# Altium footprint library lagd_pcb.PcbLib: 42 footprints (part 2 of 3)
Each footprint in its own frame and in the unit in brackets; x right, y up, seen from the top. Pads: shape width x height; smd on the part's side, far side on the other; paste and mask are expansions set on the pad; w line width, h text height; cw(c..) or ccw(c..) is an arc to the next point about the centre after c.
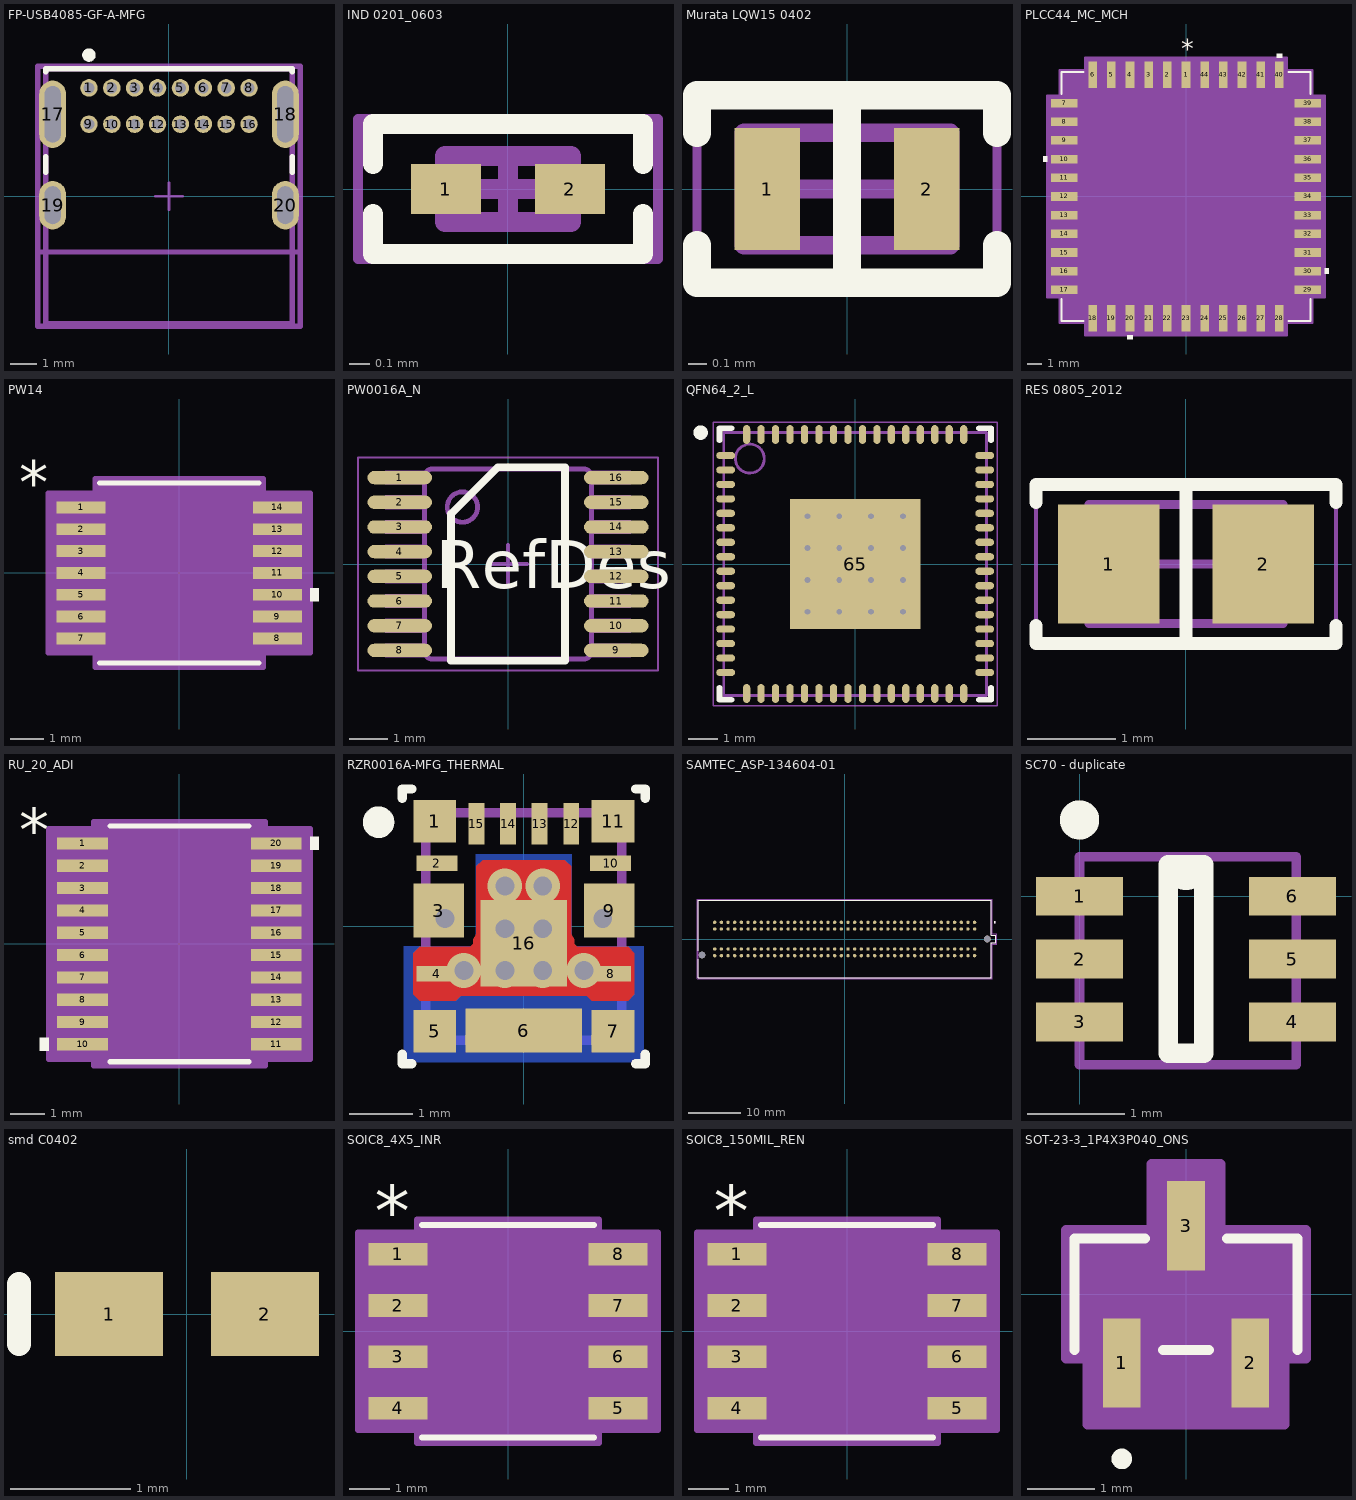
[diagram p1: the footprints below, top view; thin cyan lines are the x and y axes]

## FP-USB4085-GF-A-MFG [mm]
pads (20):
  round 0.65 hole 0.4 paste-2539.97 mask+0: 1(-2.975,4.025) 2(-2.125,4.025) 3(-1.275,4.025) 4(-0.425,4.025) 5(0.425,4.025) 6(1.275,4.025) 7(2.125,4.025) 8(2.975,4.025) 9(-2.975,2.675) 10(-2.125,2.675) 11(-1.275,2.675) 12(-0.425,2.675) 13(0.425,2.675) 14(1.275,2.675) 15(2.125,2.675) 16(2.975,2.675)
  rrect100% 1x2.5 hole 2.1 slot 0.6 at 0 deg paste-2539.97 mask+0: 17(-4.325,3.045) 18(4.325,3.045)
  rrect100% 1x1.8 hole 1.4 slot 0.6 at 0 deg paste-2539.97 mask+0: 19(-4.325,-0.335) 20(4.325,-0.335)
Top Overlay:
  circle w0.25: c-2.975,5.245 r0.125
  lines w0.2: -4.575,0.89 -4.575,1.47 ; -4.575,4.62 -4.575,4.735 4.575,4.735 4.575,4.62 ; 4.575,0.89 4.575,1.47
Top Assembly:
  lines w0.2: -4.875,-4.835 4.875,-4.835 4.875,4.835 -4.875,4.835 -4.875,-4.835
  text ".Designator" at 0,0.188 h1
Top 3D Body:
  lines w0.2: -4.875,-2.075 4.875,-2.075 ; -4.575,-4.735 4.575,-4.735 4.575,4.735 -4.575,4.735 -4.575,-4.735
Top Courtyard:
  lines w0.2: -4.875,-4.835 4.875,-4.835 4.875,4.835 -4.875,4.835 -4.875,-4.835
Top Component Center:
  lines w0.1: -0.5,0 0.5,0 ; 0,-0.5 0,0.5
3D body "Conn_GCT_USB4085-GF-A_eec.STEP": height 0.25, standoff 0, extent -4.875,-4.835 4.875,4.835

## IND 0201_0603 [mm] "Inductor, 2-Leads, Body 0.60x0.30mm, IPC Medium Density"
height 0.33
pads (2):
  rect 0.35x0.25 smd: 1(-0.31,0) 2(0.31,0)
Top Overlay:
  lines w0.1: -0.675,-0.125 -0.675,-0.325 0.675,-0.325 0.675,-0.125 ; -0.675,0.125 -0.675,0.325 0.675,0.325 0.675,0.125
Top 3D Body:
  lines w0.1: -0.315,-0.165 0.315,-0.165 0.315,0.165 -0.315,0.165 -0.315,-0.165
Top Courtyard:
  lines w0.05: -0.75,-0.35 0.75,-0.35 0.75,0.35 -0.75,0.35 -0.75,-0.35
  lines w0.1: -0.165,0 0.165,0 ; 0,-0.165 0,0.165
3D body "INDUC 0201.step": height 0.3, standoff 0, extent -0.3,-0.15 0.3,0.15

## Murata LQW15 0402 [mm] "Chip Inductor, 2-Leads, Body 1.00x0.50mm, IPC High Density"
height 0.6
pads (2):
  rect 0.35x0.65 smd: 1(-0.425,0) 2(0.425,0)
Top Overlay:
  lines w0.15: -0.8,-0.3 -0.8,-0.5 0.8,-0.5 0.8,-0.3 ; -0.8,0.3 -0.8,0.5 0.8,0.5 0.8,0.3 ; 0,-0.5 0,0.5
Top 3D Body:
  lines w0.1: -0.55,-0.3 -0.55,0.3 0.55,0.3 0.55,-0.3 -0.55,-0.3
Top Courtyard:
  lines w0.05: -0.8,-0.5 -0.8,0.5 0.8,0.5 0.8,-0.5 -0.8,-0.5
  lines w0.1: -0.3,0 0.3,0 ; 0,-0.3 0,0.3
3D body "IND-WireWound.STEP": height 0.5, standoff 0, extent -0.5,-0.276 0.5,0.277
3D body "IND-WireWound_TOP.STEP": height 0.51, standoff 0.26, extent -0.5,-0.287 0.5,0.287

## PLCC44_MC_MCH [mil]
pads (44):
  rect 23x71 smd paste+0 mask+0: 1(0,326) 2(-50,326) 3(-100,326) 4(-150,326) 5(-200,326) 6(-250,326) 18(-250,-326) 19(-200,-326) 20(-150,-326) 21(-100,-326) 22(-50,-326) 23(0,-326) 24(50,-326) 25(100,-326) 26(150,-326) 27(200,-326) 28(250,-326) 40(250,326) 41(200,326) 42(150,326) 43(100,326) 44(50,326)
  rect 71x23 smd paste+0 mask+0: 7(-326,250) 8(-326,200) 9(-326,150) 10(-326,100) 11(-326,50) 12(-326,0) 13(-326,-50) 14(-326,-100) 15(-326,-150) 16(-326,-200) 17(-326,-250) 29(326,-250) 30(326,-200) 31(326,-150) 32(326,-100) 33(326,-50) 34(326,0) 35(326,50) 36(326,100) 37(326,150) 38(326,200) 39(326,250)
Top Overlay:
  region: 257.5,371.5 242.5,371.5 242.5,381.5 257.5,381.5
  region: 371.5,-192.5 381.5,-192.5 381.5,-207.5 371.5,-207.5
  region: -142.5,-371.5 -157.5,-371.5 -157.5,-381.5 -142.5,-381.5
  region: -371.5,107.5 -381.5,107.5 -381.5,92.5 -371.5,92.5
  lines w6: -333,-274.6 -333,-333 -274.6,-333 ; -333,274.6 -333,333 -274.6,333 ; 274.6,-333 333,-333 333,-274.6 ; 274.6,333 333,333 333,274.6
  text "*" at -12.5,371.5 h50
Top 3D Body:
  drawing of 181 lines, arcs and shapes, not listed
  text "*" at -12.5,260.5 h50
Top Courtyard:
  region: -270,-338 -338,-338 -338,-270 -371.5,-270 -371.5,270 -338,270 -338,338 -270,338 -270,371.5 270,371.5 270,338 338,338 338,270 371.5,270 371.5,-270 338,-270 338,-338 270,-338 270,-371.5 -270,-371.5
  lines w6: -371.5,-270 -371.5,270 -338,270 -338,338 -270,338 -270,371.5 270,371.5 270,338 338,338 338,270 371.5,270 371.5,-270 338,-270 338,-338 270,-338 270,-371.5 -270,-371.5 -270,-338 -338,-338 -338,-270 -371.5,-270
3D body "PLCC44_MC_MCH.step": height 180.12, standoff 0.12, extent -347.52,-347.52 347.52,347.52

## PW14 [mil]
pads (14):
  rect 57.56x13.97 smd paste+0 mask+0: 1(-115,76.77) 2(-115,51.18) 3(-115,25.59) 4(-115,0) 5(-115,-25.59) 6(-115,-51.18) 7(-115,-76.77) 8(115,-76.77) 9(115,-51.18) 10(115,-25.59) 11(115,0) 12(115,25.59) 13(115,51.18) 14(115,76.77)
Top Overlay:
  region: 153.78,-18.09 163.78,-18.09 163.78,-33.09 153.78,-33.09
  lines w6: -93.5,-105.5 93.5,-105.5 ; -93.5,105.5 93.5,105.5
  text "*" at -187.72,81.46 h50
  text ".Designator" at -137.5,-25 h50
Top 3D Body:
  lines w1: -12,100.5 ccw(c0,100.5) 12,100.5 ; -130,-82.77 -88.5,-82.77 -88.5,-70.77 -130,-70.77 -130,-82.77 ; -130,-57.18 -88.5,-57.18 -88.5,-45.18 -130,-45.18 -130,-57.18 ; -130,-31.59 -88.5,-31.59 -88.5,-19.59 -130,-19.59 -130,-31.59 ; -130,-6 -88.5,-6 -88.5,6 -130,6 -130,-6 ; -130,19.59 -88.5,19.59 -88.5,31.59 -130,31.59 -130,19.59 ; -130,45.18 -88.5,45.18 -88.5,57.18 -130,57.18 -130,45.18 ; -130,70.77 -88.5,70.77 -88.5,82.77 -130,82.77 -130,70.77 ; -88.5,-100.5 -88.5,100.5 88.5,100.5 88.5,-100.5 -88.5,-100.5 ; 88.5,-82.77 130,-82.77 130,-70.77 88.5,-70.77 88.5,-82.77 ; 88.5,-57.18 130,-57.18 130,-45.18 88.5,-45.18 88.5,-57.18 ; 88.5,-31.59 130,-31.59 130,-19.59 88.5,-19.59 88.5,-31.59 ; 88.5,-6 130,-6 130,6 88.5,6 88.5,-6 ; 88.5,19.59 130,19.59 130,31.59 88.5,31.59 88.5,19.59 ; 88.5,45.18 130,45.18 130,57.18 88.5,57.18 88.5,45.18 ; 88.5,70.77 130,70.77 130,82.77 88.5,82.77 88.5,70.77
  text ".Designator" at -137.5,-25 h50
  text "*" at -86,47.5 h50
Top Courtyard:
  region: -98.5,-93.76 -153.78,-93.76 -153.78,93.76 -98.5,93.76 -98.5,110.5 98.5,110.5 98.5,93.76 153.78,93.76 153.78,-93.76 98.5,-93.76 98.5,-110.5 -98.5,-110.5
  lines w6: -153.78,-93.76 -98.5,-93.76 -98.5,-110.5 98.5,-110.5 98.5,-93.76 153.78,-93.76 153.78,93.76 98.5,93.76 98.5,110.5 -98.5,110.5 -98.5,93.76 -153.78,93.76 -153.78,-93.76
3D body "PW14.step": height 47.09, standoff 0, extent -130,-100.51 130,100.51

## PW0016A_N [mm]
pads (16):
  oval 1.7x0.35 smd paste-0.102 mask+0.051: 1(-2.85,2.275) 2(-2.85,1.625) 3(-2.85,0.975) 4(-2.85,0.325) 5(-2.85,-0.325) 6(-2.85,-0.975) 7(-2.85,-1.625) 8(-2.85,-2.275) 9(2.85,-2.275) 10(2.85,-1.625) 11(2.85,-0.975) 12(2.85,-0.325) 13(2.85,0.325) 14(2.85,0.975) 15(2.85,1.625) 16(2.85,2.275)
Top Overlay:
  lines w0.2: -1.5,-2.55 1.5,-2.55 1.5,2.55 -0.275,2.55 -1.5,1.325 -1.5,-2.55
  text "RefDes" at -1.905,-0.635 h1.27
Top 3D Body:
  drawing of 202 lines, arcs and shapes, not listed
Top Courtyard:
  lines w0.05: -3.95,-2.8 -3.95,2.8 3.95,2.8 3.95,-2.8 -3.95,-2.8
  lines w0.1: -0.5,0 0.5,0 ; 0,-0.5 0,0.5

## QFN64_2_L [mm] "QFN, 64-Leads, Body 9x9mm, Pitch 0.5mm, Thermal Pad 4.5x4.5mm, IPC High Density"
height 1
pads (65):
  oval 0.65x0.25 smd: 1(-4.475,3.75) 2(-4.475,3.25) 3(-4.475,2.75) 4(-4.475,2.25) 5(-4.475,1.75) 6(-4.475,1.25) 7(-4.475,0.75) 8(-4.475,0.25) 9(-4.475,-0.25) 10(-4.475,-0.75) 11(-4.475,-1.25) 12(-4.475,-1.75) 13(-4.475,-2.25) 14(-4.475,-2.75) 15(-4.475,-3.25) 16(-4.475,-3.75) 33(4.475,-3.75) 34(4.475,-3.25) 35(4.475,-2.75) 36(4.475,-2.25) 37(4.475,-1.75) 38(4.475,-1.25) 39(4.475,-0.75) 40(4.475,-0.25) 41(4.475,0.25) 42(4.475,0.75) 43(4.475,1.25) 44(4.475,1.75) 45(4.475,2.25) 46(4.475,2.75) 47(4.475,3.25) 48(4.475,3.75)
  oval 0.25x0.65 smd: 17(-3.75,-4.475) 18(-3.25,-4.475) 19(-2.75,-4.475) 20(-2.25,-4.475) 21(-1.75,-4.475) 22(-1.25,-4.475) 23(-0.75,-4.475) 24(-0.25,-4.475) 25(0.25,-4.475) 26(0.75,-4.475) 27(1.25,-4.475) 28(1.75,-4.475) 29(2.25,-4.475) 30(2.75,-4.475) 31(3.25,-4.475) 32(3.75,-4.475) 49(3.75,4.475) 50(3.25,4.475) 51(2.75,4.475) 52(2.25,4.475) 53(1.75,4.475) 54(1.25,4.475) 55(0.75,4.475) 56(0.25,4.475) 57(-0.25,4.475) 58(-0.75,4.475) 59(-1.25,4.475) 60(-1.75,4.475) 61(-2.25,4.475) 62(-2.75,4.475) 63(-3.25,4.475) 64(-3.75,4.475)
  rect 4.5x4.5 smd: 65(0,0)
via -1.65,-1.65 diameter 0.55 hole 0.2
via -1.65,0.55 diameter 0.55 hole 0.2
via -1.65,-0.55 diameter 0.55 hole 0.2
via -1.65,1.65 diameter 0.55 hole 0.2
via -0.55,-1.65 diameter 0.55 hole 0.2
via 0.55,-1.65 diameter 0.55 hole 0.2
via 1.65,-0.55 diameter 0.55 hole 0.2
via 0.55,-0.55 diameter 0.55 hole 0.2
via -0.55,0.55 diameter 0.55 hole 0.2
via -0.55,-0.55 diameter 0.55 hole 0.2
via 1.65,0.55 diameter 0.55 hole 0.2
via 0.55,0.55 diameter 0.55 hole 0.2
via 1.65,-1.65 diameter 0.55 hole 0.2
via 0.55,1.65 diameter 0.55 hole 0.2
via 1.65,1.65 diameter 0.55 hole 0.2
via -0.55,1.65 diameter 0.55 hole 0.2
Top Overlay:
  circle w0.25: c-5.34,4.54 r0.125
  lines w0.2: -4.69,-4.275 -4.69,-4.69 -4.275,-4.69 ; -4.69,4.275 -4.69,4.69 -4.275,4.69 ; 4.275,-4.69 4.69,-4.69 4.69,-4.275 ; 4.275,4.69 4.69,4.69 4.69,4.275
Top 3D Body:
  circle w0.1: c-3.64,3.64 r0.5
  lines w0.1: -4.54,-4.54 -4.54,4.54 4.54,4.54 4.54,-4.54 -4.54,-4.54
Top Courtyard:
  lines w0.05: -4.9,-4.9 -4.9,4.9 4.9,4.9 4.9,-4.9 -4.9,-4.9
  lines w0.1: -0.5,0 0.5,0 ; 0,-0.5 0,0.5
3D body: height 1, standoff 0, extent -4.54,-4.54 4.54,4.54

## RES 0805_2012 [mm] "Chip Resistor, 2-Leads, Body 2.00x1.25mm, IPC Medium Density"
height 0.7
pads (2):
  rect 1.15x1.35 smd: 1(-0.875,0) 2(0.875,0)
Top Overlay:
  lines w0.15: -1.7,-0.7 -1.7,-0.9 1.7,-0.9 1.7,-0.7 ; -1.7,0.7 -1.7,0.9 1.7,0.9 1.7,0.7 ; 0,-0.9 0,0.9
Top 3D Body:
  lines w0.1: -1.1,-0.675 -1.1,0.675 1.1,0.675 1.1,-0.675 -1.1,-0.675
Top Courtyard:
  lines w0.05: -1.7,-0.95 -1.7,0.95 1.7,0.95 1.7,-0.95 -1.7,-0.95
  lines w0.1: -0.5,0 0.5,0 ; 0,-0.5 0,0.5
3D body "0805 resistor.STEP": height 0.6, standoff 0, extent -1,-0.625 1,0.625

## RU_20_ADI [mil]
pads (20):
  rect 58x14 smd paste+0 mask+0: 1(-111,115.16) 2(-111,89.57) 3(-111,63.98) 4(-111,38.39) 5(-111,12.8) 6(-111,-12.8) 7(-111,-38.39) 8(-111,-63.98) 9(-111,-89.57) 10(-111,-115.16) 11(111,-115.16) 12(111,-89.57) 13(111,-63.98) 14(111,-38.39) 15(111,-12.8) 16(111,12.8) 17(111,38.39) 18(111,63.98) 19(111,89.57) 20(111,115.16)
Top Overlay:
  region: -150,-107.66 -160,-107.66 -160,-122.66 -150,-122.66
  region: 150,122.66 160,122.66 160,107.66 150,107.66
  lines w6: -79.42,-135 79.42,-135 ; -79.42,135 79.42,135
  text "*" at -183.83,105.31 h50
  text ".Designator" at -137.5,-25 h50
Top 3D Body:
  lines w1: -12,130 ccw(c0,130) 12,130 ; -126,-121.16 -126,-109.16 -88.5,-109.16 -88.5,-121.16 -126,-121.16 ; -126,-95.57 -126,-83.57 -88.5,-83.57 -88.5,-95.57 -126,-95.57 ; -126,-69.98 -126,-57.98 -88.5,-57.98 -88.5,-69.98 -126,-69.98 ; -126,-44.39 -126,-32.39 -88.5,-32.39 -88.5,-44.39 -126,-44.39 ; -126,-18.8 -126,-6.8 -88.5,-6.8 -88.5,-18.8 -126,-18.8 ; -126,6.8 -126,18.8 -88.5,18.8 -88.5,6.8 -126,6.8 ; -126,32.39 -126,44.39 -88.5,44.39 -88.5,32.39 -126,32.39 ; -126,57.98 -126,69.98 -88.5,69.98 -88.5,57.98 -126,57.98 ; -126,83.57 -126,95.57 -88.5,95.57 -88.5,83.57 -126,83.57 ; -126,109.16 -126,121.16 -88.5,121.16 -88.5,109.16 -126,109.16 ; -88.5,-130 88.5,-130 88.5,130 -88.5,130 -88.5,-130 ; 88.5,-121.16 88.5,-109.16 126,-109.16 126,-121.16 88.5,-121.16 ; 88.5,-95.57 88.5,-83.57 126,-83.57 126,-95.57 88.5,-95.57 ; 88.5,-69.98 88.5,-57.98 126,-57.98 126,-69.98 88.5,-69.98 ; 88.5,-44.39 88.5,-32.39 126,-32.39 126,-44.39 88.5,-44.39 ; 88.5,-18.8 88.5,-6.8 126,-6.8 126,-18.8 88.5,-18.8 ; 88.5,6.8 88.5,18.8 126,18.8 126,6.8 88.5,6.8 ; 88.5,32.39 88.5,44.39 126,44.39 126,32.39 88.5,32.39 ; 88.5,57.98 88.5,69.98 126,69.98 126,57.98 88.5,57.98 ; 88.5,83.57 88.5,95.57 126,95.57 126,83.57 88.5,83.57 ; 88.5,109.16 88.5,121.16 126,121.16 126,109.16 88.5,109.16
  text ".Designator" at -137.5,-25 h50
  text "*" at -86,77 h50
Top Courtyard:
  region: -98.5,-132.16 -150,-132.16 -150,132.16 -98.5,132.16 -98.5,140 98.5,140 98.5,132.16 150,132.16 150,-132.16 98.5,-132.16 98.5,-140 -98.5,-140
  lines w6: -150,-132.16 -150,132.16 -98.5,132.16 -98.5,140 98.5,140 98.5,132.16 150,132.16 150,-132.16 98.5,-132.16 98.5,-140 -98.5,-140 -98.5,-132.16 -150,-132.16
3D body "RU_20_ADI.step": height 47.09, standoff 0, extent -125.98,-130 125.98,130

## RZR0016A-MFG_THERMAL [mm] "add thermal dissipation plane at PGND back"
height 1.78
pads (16):
  rect 0.675x0.675 smd paste-0.325 mask-0.33: 1(-1.412,1.663) 5(-1.412,-1.663) 7(1.412,-1.663) 11(1.412,1.663)
  rect 0.65x0.25 smd paste+0 mask-0.318: 2(-1.375,1) 10(1.375,1)
  rect 0.8x0.85 smd paste-0.412 mask-0.406: 3(-1.35,0.25) 9(1.35,0.25)
  rect 0.65x0.25 smd paste-0.312 mask-0.318: 4(-1.375,-0.75) 8(1.375,-0.75)
  rect 1.85x0.7 smd paste-0.912 mask-0.914: 6(0,-1.65)
  rect 0.25x0.65 smd paste+0 mask-0.318: 12(0.75,1.625) 13(0.25,1.625) 14(-0.25,1.625) 15(-0.75,1.625)
  rect 1.375x1.375 smd paste+0 mask+0: 16(0,-0.268)
via 1.25,0.125 diameter 0.55 hole 0.3
via -1.25,0.125 diameter 0.55 hole 0.3
via -0.95,-0.7 diameter 0.55 hole 0.3
via -0.3,-0.7 diameter 0.55 hole 0.3
via 0.3,0.641 diameter 0.55 hole 0.3
via -0.3,0.641 diameter 0.55 hole 0.3
via -0.3,-0.038 diameter 0.55 hole 0.3
via 0.3,-0.038 diameter 0.55 hole 0.3
via 0.95,-0.7 diameter 0.55 hole 0.3
via 0.3,-0.7 diameter 0.55 hole 0.3
Top Layer:
  region: -1.65,-1.175 -1.75,-1.075 -1.75,-0.425 -1.65,-0.325 -0.85,-0.325 -0.8,-0.275 -0.8,-0.206 -0.775,-0.163 -0.75,-0.119 -0.75,0.95 -0.65,1.05 0.65,1.05 0.75,0.95 0.75,-0.119 0.775,-0.163 0.8,-0.206 0.8,-0.275 0.85,-0.325 1.65,-0.325 1.75,-0.425 1.75,-1.075 1.65,-1.175 1.074,-1.175 1,-1.1 -1,-1.1 -1.074,-1.175
Bottom Layer:
  rectangle: -0.762,-0.381 0.762,1.143
  rectangle: -1.905,-2.159 1.905,-0.309
Top Overlay:
  circle w0.25: c-2.3,1.65 r0.125
  lines w0.15: -1.925,-2.025 -1.925,-2.175 -1.775,-2.175 ; -1.925,2.025 -1.925,2.175 -1.775,2.175 ; 1.775,-2.175 1.925,-2.175 1.925,-2.025 ; 1.775,2.175 1.925,2.175 1.925,2.025
Top Paste:
  drawing of 13 lines, arcs and shapes, not listed
Top Solder:
  drawing of 16 lines, arcs and shapes, not listed
Top 3D Body:
  lines w0.15: -1.55,-1.8 1.55,-1.8 1.55,1.8 -1.55,1.8 -1.55,-1.8

## SAMTEC_ASP-134604-01 [mm]
pads (162):
  round 0.64 smd: C1(24.765,3.175) C2(23.495,3.175) C3(22.225,3.175) C4(20.955,3.175) C5(19.685,3.175) C6(18.415,3.175) C7(17.145,3.175) C8(15.875,3.175) C9(14.605,3.175) C10(13.335,3.175) C11(12.065,3.175) C12(10.795,3.175) C13(9.525,3.175) C14(8.255,3.175) C15(6.985,3.175) C16(5.715,3.175) C17(4.445,3.175) C18(3.175,3.175) C19(1.905,3.175) C20(0.635,3.175) C21(-0.635,3.175) C22(-1.905,3.175) C23(-3.175,3.175) C24(-4.445,3.175) C25(-5.715,3.175) C26(-6.985,3.175) C27(-8.255,3.175) C28(-9.525,3.175) C29(-10.795,3.175) C30(-12.065,3.175) C31(-13.335,3.175) C32(-14.605,3.175) C33(-15.875,3.175) C34(-17.145,3.175) C35(-18.415,3.175) C36(-19.685,3.175) C37(-20.955,3.175) C38(-22.225,3.175) C39(-23.495,3.175) C40(-24.765,3.175) D1(24.765,1.905) D2(23.495,1.905) D3(22.225,1.905) D4(20.955,1.905) D5(19.685,1.905) D6(18.415,1.905) D7(17.145,1.905) D8(15.875,1.905) D9(14.605,1.905) D10(13.335,1.905) D11(12.065,1.905) D12(10.795,1.905) D13(9.525,1.905) D14(8.255,1.905) D15(6.985,1.905) D16(5.715,1.905) D17(4.445,1.905) D18(3.175,1.905) D19(1.905,1.905) D20(0.635,1.905) D21(-0.635,1.905) D22(-1.905,1.905) D23(-3.175,1.905) D24(-4.445,1.905) D25(-5.715,1.905) D26(-6.985,1.905) D27(-8.255,1.905) D28(-9.525,1.905) D29(-10.795,1.905) D30(-12.065,1.905) D31(-13.335,1.905) D32(-14.605,1.905) D33(-15.875,1.905) D34(-17.145,1.905) D35(-18.415,1.905) D36(-19.685,1.905) D37(-20.955,1.905) D38(-22.225,1.905) D39(-23.495,1.905) D40(-24.765,1.905) G1(24.765,-1.905) G2(23.495,-1.905) G3(22.225,-1.905) G4(20.955,-1.905) G5(19.685,-1.905) G6(18.415,-1.905) G7(17.145,-1.905) G8(15.875,-1.905) G9(14.605,-1.905) G10(13.335,-1.905) G11(12.065,-1.905) G12(10.795,-1.905) G13(9.525,-1.905) G14(8.255,-1.905) G15(6.985,-1.905) G16(5.715,-1.905) G17(4.445,-1.905) G18(3.175,-1.905) G19(1.905,-1.905) G20(0.635,-1.905) G21(-0.635,-1.905) G22(-1.905,-1.905) G23(-3.175,-1.905) G24(-4.445,-1.905) G25(-5.715,-1.905) G26(-6.985,-1.905) G27(-8.255,-1.905) G28(-9.525,-1.905) G29(-10.795,-1.905) G30(-12.065,-1.905) G31(-13.335,-1.905) G32(-14.605,-1.905) G33(-15.875,-1.905) G34(-17.145,-1.905) G35(-18.415,-1.905) G36(-19.685,-1.905) G37(-20.955,-1.905) G38(-22.225,-1.905) G39(-23.495,-1.905) G40(-24.765,-1.905) H1(24.765,-3.175) H2(23.495,-3.175) H3(22.225,-3.175) H4(20.955,-3.175) H5(19.685,-3.175) H6(18.415,-3.175) H7(17.145,-3.175) H8(15.875,-3.175) H9(14.605,-3.175) H10(13.335,-3.175) H11(12.065,-3.175) H12(10.795,-3.175) H13(9.525,-3.175) H14(8.255,-3.175) H15(6.985,-3.175) H16(5.715,-3.175) H17(4.445,-3.175) H18(3.175,-3.175) H19(1.905,-3.175) H20(0.635,-3.175) H21(-0.635,-3.175) H22(-1.905,-3.175) H23(-3.175,-3.175) H24(-4.445,-3.175) H25(-5.715,-3.175) H26(-6.985,-3.175) H27(-8.255,-3.175) H28(-9.525,-3.175) H29(-10.795,-3.175) H30(-12.065,-3.175) H31(-13.335,-3.175) H32(-14.605,-3.175) H33(-15.875,-3.175) H34(-17.145,-3.175) H35(-18.415,-3.175) H36(-19.685,-3.175) H37(-20.955,-3.175) H38(-22.225,-3.175) H39(-23.495,-3.175) H40(-24.765,-3.175)
  round 1.27 hole 1.27 unplated: ""(-27.191,-3.05) ""(27.19,0)
Top Overlay:
  circle w0.2: c28.6,3.2 r0.1
  lines w0.127: -27.89,-7.35 -27.89,-3.85 ; -27.89,-7.34 27.89,-7.34 27.89,-0.76 28.78,-0.76 28.78,0.76 27.89,0.76 27.89,7.34 -27.89,7.34 ; -27.89,-2.25 -27.89,7.35
Top 3D Body:
  circle w0.2: c28.6,3.2 r0.1
  lines w0.127: -27.89,-7.34 -27.89,7.34 27.89,7.34 27.89,0.76 28.78,0.76 28.78,-0.76 27.89,-0.76 27.89,-7.34 -27.89,-7.34
Top Courtyard:
  lines w0.05: -28.14,-7.59 -28.14,7.59 28.14,7.59 28.14,1.01 29.03,1.01 29.03,-1.01 28.14,-1.01 28.14,-7.59 -28.14,-7.59

## SC70 - duplicate [mm]
pads (6):
  rect 0.9x0.4 smd: 1(0,0) 2(0,-0.65) 3(0,-1.3) 4(2.2,-1.3) 5(2.2,-0.65) 6(2.2,0)
Top Overlay:
  circle w0.254: c0,0.787 r0.076
  lines w0.2: 0.915,-1.625 1.285,-1.625 1.285,0.325 0.937,0.325 ccw(c1.1,0.325) 1.262,0.325 0.915,0.325 0.915,-1.625
Mechanical 1:
  lines w0.1: 0,-1.744 2.24,-1.744 2.24,0.406 0,0.406 0,-1.744

## smd C0402 [mm] "Chip Capacitor; Body 1.0 x 0.5 mm (LxW typ)"
height 0.55
pads (2):
  rect 0.9x0.7 smd: 1(-0.65,0) 2(0.65,0)
Top Overlay:
  lines w0.2: -1.4,-0.25 -1.4,0.25

## SOIC8_4X5_INR [mil]
pads (8):
  rect 57.5x22 smd paste+0 mask+0: 1(-107.25,75) 2(-107.25,25) 3(-107.25,-25) 4(-107.25,-75) 5(107.25,-75) 6(107.25,-25) 7(107.25,25) 8(107.25,75)
Top Overlay:
  lines w6: -83.5,-103.5 83.5,-103.5 ; -83.5,103.5 83.5,103.5
  text "*" at -129.75,92 h50
Top 3D Body:
  lines w1: -12,98.5 ccw(c0,98.5) 12,98.5 ; -122,-85 -78.5,-85 -78.5,-65 -122,-65 -122,-85 ; -122,-35 -78.5,-35 -78.5,-15 -122,-15 -122,-35 ; -122,15 -78.5,15 -78.5,35 -122,35 -122,15 ; -122,65 -78.5,65 -78.5,85 -122,85 -122,65 ; -78.5,-98.5 -78.5,98.5 78.5,98.5 78.5,-98.5 -78.5,-98.5 ; 78.5,-85 122,-85 122,-65 78.5,-65 78.5,-85 ; 78.5,-35 122,-35 122,-15 78.5,-15 78.5,-35 ; 78.5,15 122,15 122,35 78.5,35 78.5,15 ; 78.5,65 122,65 122,85 78.5,85 78.5,65
  text ".Designator" at -137.5,-25 h50
  text "*" at -76,45.5 h50
Top Courtyard:
  region: -88.5,-96 -146,-96 -146,96 -88.5,96 -88.5,108.5 88.5,108.5 88.5,96 146,96 146,-96 88.5,-96 88.5,-108.5 -88.5,-108.5
  lines w6: -146,-96 -88.5,-96 -88.5,-108.5 88.5,-108.5 88.5,-96 146,-96 146,96 88.5,96 88.5,108.5 -88.5,108.5 -88.5,96 -146,96 -146,-96
3D body "SOIC8_4X5_INR.step": height 69.09, standoff 0, extent -122.01,-98.5 122.01,98.5

## SOIC8_150MIL_REN [mil]
pads (8):
  rect 57.5x22 smd paste+0 mask+0: 1(-107.25,75) 2(-107.25,25) 3(-107.25,-25) 4(-107.25,-75) 5(107.25,-75) 6(107.25,-25) 7(107.25,25) 8(107.25,75)
Top Overlay:
  lines w6: -83.5,-103.5 83.5,-103.5 ; -83.5,103.5 83.5,103.5
  text "*" at -129.75,92 h50
Top 3D Body:
  lines w0: -12,98.5 ccw(c0,98.5) 12,98.5
  lines w1: -122,-85 -122,-65 -78.5,-65 -78.5,-85 -122,-85 ; -122,-35 -122,-15 -78.5,-15 -78.5,-35 -122,-35 ; -122,15 -78.5,15 -78.5,35 -122,35 -122,15 ; -122,65 -78.5,65 -78.5,85 -122,85 -122,65 ; -78.5,-98.5 -78.5,98.5 78.5,98.5 78.5,-98.5 -78.5,-98.5 ; 78.5,-85 78.5,-65 122,-65 122,-85 78.5,-85 ; 78.5,-35 78.5,-15 122,-15 122,-35 78.5,-35 ; 78.5,15 122,15 122,35 78.5,35 78.5,15 ; 78.5,65 78.5,85 122,85 122,65 78.5,65
  text "*" at -76,45.5 h50
Top Courtyard:
  region: -88.5,-96 -146,-96 -146,96 -88.5,96 -88.5,108.5 88.5,108.5 88.5,96 146,96 146,-96 88.5,-96 88.5,-108.5 -88.5,-108.5
  lines w6: -146,-96 -88.5,-96 -88.5,-108.5 88.5,-108.5 88.5,-96 146,-96 146,96 88.5,96 88.5,108.5 -88.5,108.5 -88.5,96 -146,96 -146,-96
3D body "SOIC8_150MIL_REN.step": height 69.09, standoff 0, extent -122.01,-98.5 122.01,98.5

## SOT-23-3_1P4X3P040_ONS [mil]
pads (3):
  rect 22x52 smd paste+0 mask+0: 1(-37.5,-40) 2(37.5,-40) 3(0,40)
Top Overlay:
  circle w6: c-37.5,-96 r3
  lines w6: -65,-32.5 -65,32.5 -24.1,32.5 ; -13.4,-32.5 13.4,-32.5 ; 24.1,32.5 65,32.5 65,-32.5
Top 3D Body:
  circle w0: c-37.5,-17.5 r3
  lines w1: -60,-27.5 -60,27.5 60,27.5 60,-27.5 -60,-27.5 ; -47.5,-52 -27.5,-52 -27.5,-27.5 -47.5,-27.5 -47.5,-52 ; -10,27.5 -10,52 10,52 10,27.5 -10,27.5 ; 27.5,-52 47.5,-52 47.5,-27.5 27.5,-27.5 27.5,-52
Top Courtyard:
  region: -70,-37.5 -70,37.5 -20,37.5 -20,76 20,76 20,37.5 70,37.5 70,-37.5 57.5,-37.5 57.5,-76 -57.5,-76 -57.5,-37.5
  lines w6: -70,-37.5 -57.5,-37.5 -57.5,-76 57.5,-76 57.5,-37.5 70,-37.5 70,37.5 20,37.5 20,76 -20,76 -20,37.5 -70,37.5 -70,-37.5
3D body "SOT-23-3_1P4X3P040_ONS.step": height 44.09, standoff 0, extent -60,-52.01 60,52.01